# EAGLE library part 3-5435640-5 (library Switches)
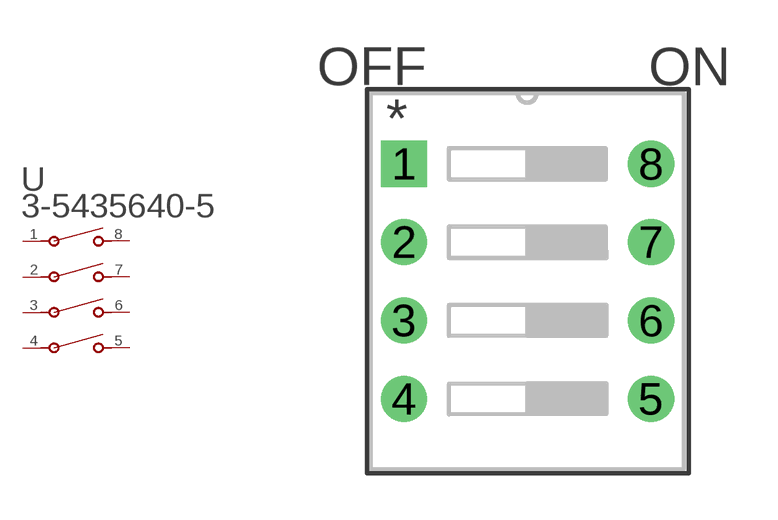
[diagram p34: symbol with the pads of SWDIP8_315X360P100; footprint SWDIP8_315X360P100]

Designator prefix U

## 3-5435640-5 (BUILT_BY: EMA_UL_Team; CATEGORY: DIP & SIP Switches; COPYRIGHT: Copyright (C) 2016 Accelerated Designs. All rights reserved; DESCRIPTION: DIP SW 4 POSN SEALED; MANUFACTURER_PART_NUMBER: 3-5435640-5; PART_STATUS: active; SERIES: Alcoswitch 7100; VENDOR: TE Connectivity)  [SWDIP8_315X360P100]
1  1  pas
2  2  pas
3  3  pas
4  4  pas
5  5  pas
6  6  pas
7  7  pas
8  8  pas

## Footprint SWDIP8_315X360P100 (pad centres in mm)
drill 0.991 pad 1.499 square: 1 -8.001,7.62
drill 0.991 pad 1.499: 2 -8.001,5.08; 3 -8.001,2.54; 4 -8.001,0; 5 0,0; 6 0,2.54; 7 0,5.08; 8 0,7.62